# Altium footprint library Adafruit.PcbLib: 3 footprints
Each footprint in its own frame and in the unit in brackets; x right, y up, seen from the top. Pads: shape width x height; smd on the part's side, far side on the other; paste and mask are expansions set on the pad; w line width, h text height; cw(c..) or ccw(c..) is an arc to the next point about the centre after c.
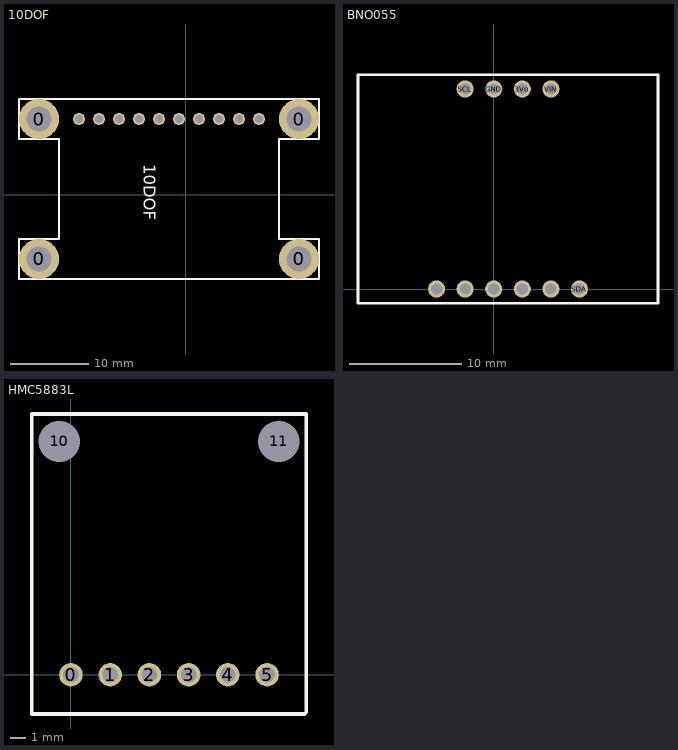
[diagram p0: the footprints below, top view; thin cyan lines are the x and y axes]

## 10DOF [mil]
pads (14):
  round 200 hole 125: 0(-733.5,-320.19) 0(-733.5,379.81) 0(566.5,-320.19) 0(566.5,379.81)
  round 60 hole 40: 3Vo(266.5,379.81) GINT(-133.5,379.81) GND(166.5,379.81) GRDY(-233.5,379.81) LIN1(-333.5,379.81) LIN2(-433.5,379.81) LRDY(-533.5,379.81) SCL(66.5,379.81) SDA(-33.5,379.81) VIN(366.5,379.81)
Top Overlay:
  lines w10: -833.5,-420.19 -833.5,-320.19 -833.5,-220.19 -633.5,-220.19 -633.5,279.81 -833.5,279.81 -833.5,379.81 -833.5,479.81 666.5,479.81 666.5,279.81 466.5,279.81 466.5,-220.19 666.5,-220.19 666.5,-420.19 -833.5,-420.19
  text "10DOF" at -208.5,154.81 h60

## BNO055 [mil]
pads (10):
  round 60 hole 40: 3Vo(100,700) GINT(200,0) GND(0,700) GRDY(100,0) LIN1(0,0) LIN2(-100,0) LRDY(-200,0) SCL(-100,700) SDA(300,0) VIN(200,700)
Top Overlay:
  lines w10: -475,-50 -475,750 575,750 575,-50 -475,-50

## HMC5883L [mil] "Compass"
pads (8):
  round 60 hole 40: 0(0,0) 1(100,0) 2(200,0) 3(300,0) 4(400,0) 5(500,0)
  round 60 hole 105: 10(-30,595) 11(530,595)
Top Overlay:
  lines w10: 595,-100 250,-100 0,-100 -100,-100 -100,665 600,665 600,-95